# Altium schematic symbol library SCH - LOGIC - SN74LVC1G74DCTR.Schlib: 1 symbol
Pins are listed as number, name and electrical type; pins without a type are passive.

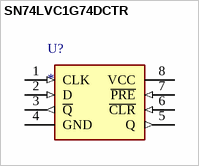
[diagram p0: symbol SN74LVC1G74DCTR]

## SN74LVC1G74DCTR
designator U?
pins: 1 CLK (in), 2 D (in), 3 ~{Q} (out), 4 GND (power), 5 Q (out), 6 ~{CLR} (in), 7 ~{PRE} (in), 8 VCC (power)